# EAGLE library part LY20 (library relay)
RELAY 2 x switch, Omron
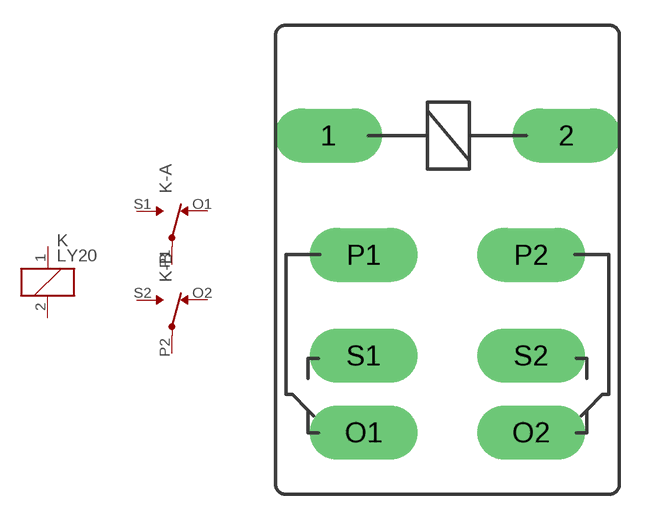
[diagram p15: symbol with the pads of LY20; footprint LY20]

Designator prefix K; gates C=K -A=U -B=U

## LY20  [LY20]
1  C:1  pas
2  C:2  pas
O1  -A:NC  pas
O2  -B:NC  pas
P1  -A:COM  pas
P2  -B:COM  pas
S1  -A:NO  pas
S2  -B:NO  pas

## Footprint LY20 (pad centres in mm)
RELAY 2 x switch, Omron
drill 2.21 long: 1 -7.112,0; 2 7.112,0; O1 -5.004,-17.755; O2 5.004,-17.755; P1 -5.004,-7.137; P2 5.004,-7.137; S1 -5.004,-13.157; S2 5.004,-13.157